# EAGLE library part DISP_LCD_S6B33B6_15IN33PIN (library microbuilder)
1.5" 128x128 Pixel 65K CSTN LCD with S6B33B6 Controller 33-Pins
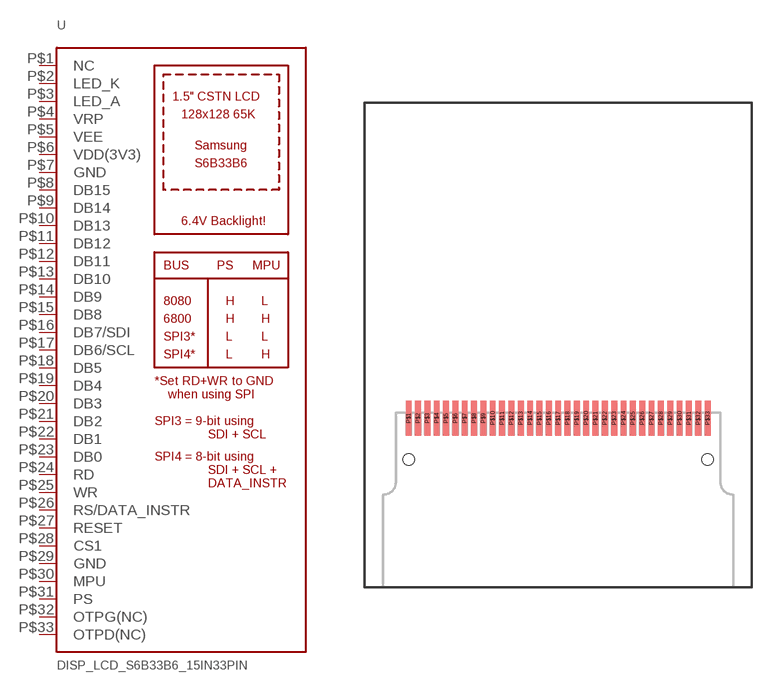
[diagram p193: symbol with the pads of S6B33B6_1.5IN_LCD; footprint S6B33B6_1.5IN_LCD]

Designator prefix U

## DISP_LCD_S6B33B6_15IN33PIN  [S6B33B6_1.5IN_LCD]
P$1  NC  nc
P$2  LED_K
P$3  LED_A
P$4  VRP  out
P$5  VEE  in
P$6  VDD(3V3)  pwr
P$7  GND  pwr
P$8  DB15
P$9  DB14
P$10  DB13
P$11  DB12
P$12  DB11
P$13  DB10
P$14  DB9
P$15  DB8
P$16  DB7/SDI
P$17  DB6/SCL
P$18  DB5
P$19  DB4
P$20  DB3
P$21  DB2
P$22  DB1
P$23  DB0
P$24  RD  in
P$25  WR  in
P$26  RS/DATA_INSTR  in
P$27  RESET  in
P$28  CS1  in
P$29  GND  pwr
P$30  MPU  in
P$31  PS  in
P$32  OTPG(NC)  nc
P$33  OTPD(NC)  nc

## Footprint S6B33B6_1.5IN_LCD (pad centres in mm)
Mystery 1.5" S6B33B6X TFT LCD BAsed on manual measurements with a caliper since no mechanical diagram was available, but should be relatively close.
smd 0.5 x 3: P$1 -12.8,-6.25; P$2 -12,-6.25; P$3 -11.2,-6.25; P$4 -10.4,-6.25; P$5 -9.6,-6.25; P$6 -8.8,-6.25; P$7 -8,-6.25; P$8 -7.2,-6.25; P$9 -6.4,-6.25; P$10 -5.6,-6.25; P$11 -4.8,-6.25; P$12 -4,-6.25; P$13 -3.2,-6.25; P$14 -2.4,-6.25; P$15 -1.6,-6.25; P$16 -0.8,-6.25; P$17 0,-6.25; P$18 0.8,-6.25; P$19 1.6,-6.25; P$20 2.4,-6.25; P$21 3.2,-6.25; P$22 4,-6.25; P$23 4.8,-6.25; P$24 5.6,-6.25; P$25 6.4,-6.25; P$26 7.2,-6.25; P$27 8,-6.25; P$28 8.8,-6.25; P$29 9.6,-6.25; P$30 10.4,-6.25; P$31 11.2,-6.25; P$32 12,-6.25; P$33 12.8,-6.25
hole 1 at 12.8,-9.8
hole 1 at -12.8,-9.8